# Altium footprint library FUSC5141X160N.PcbLib: 1 footprints
Each footprint in its own frame and in the unit in brackets; x right, y up, seen from the top. Pads: shape width x height; smd on the part's side, far side on the other; paste and mask are expansions set on the pad; w line width, h text height; cw(c..) or ccw(c..) is an arc to the next point about the centre after c.
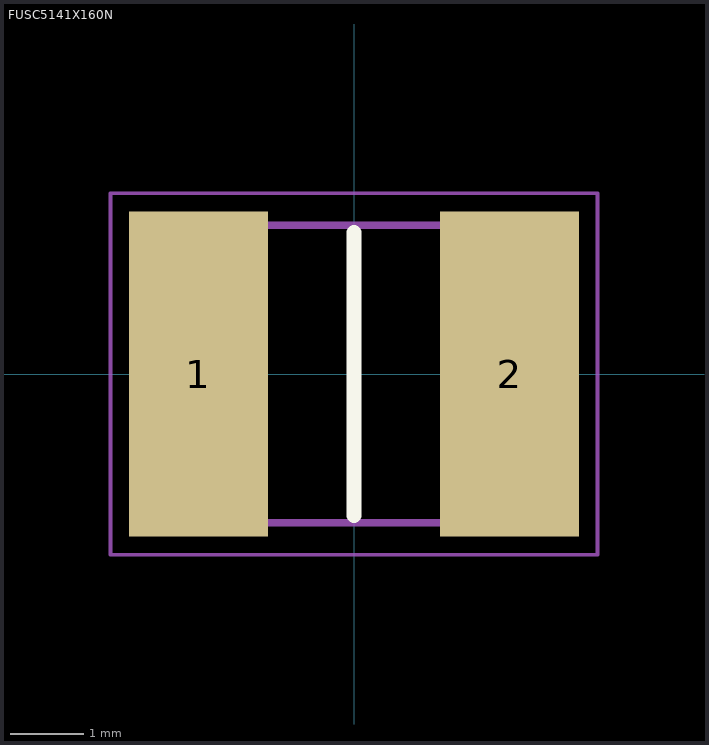
[diagram p0: the footprint, top view; thin cyan lines are the x and y axes]

## FUSC5141X160N [mm]
pads (2):
  rect 1.9x4.44 smd: 1(-2.125,0) 2(2.125,0)
Top Overlay:
  lines w0.2: 0,-1.932 0,1.932
Mechanical 15:
  lines w0.1: -2.54,-2.032 2.54,-2.032 2.54,2.032 -2.54,2.032 -2.54,-2.032
Mechanical 20:
  lines w0.05: -3.325,-2.47 3.325,-2.47 3.325,2.47 -3.325,2.47 -3.325,-2.47